# Altium footprint library DSBGA-12.PcbLib: 1 footprints
Each footprint in its own frame and in the unit in brackets; x right, y up, seen from the top. Pads: shape width x height; smd on the part's side, far side on the other; paste and mask are expansions set on the pad; w line width, h text height; cw(c..) or ccw(c..) is an arc to the next point about the centre after c.
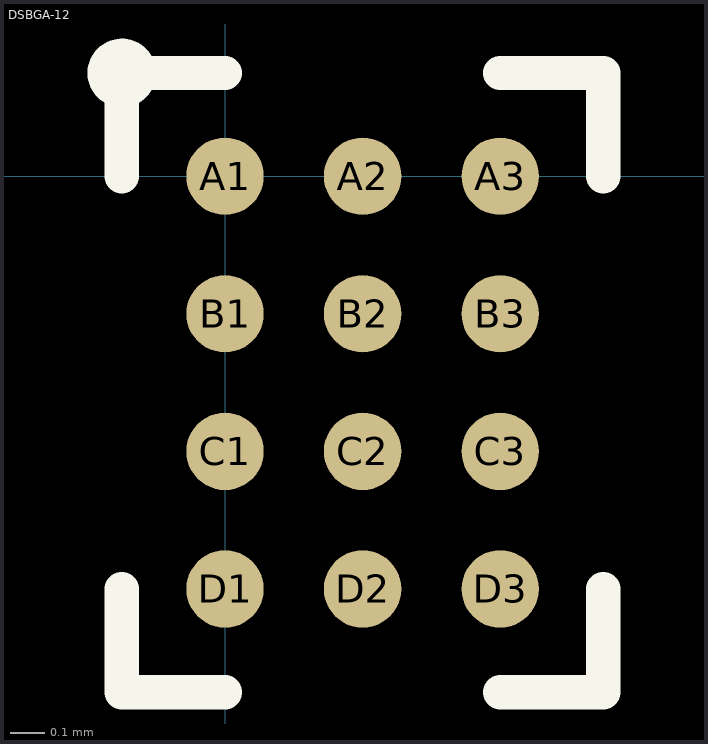
[diagram p0: the footprint, top view; thin cyan lines are the x and y axes]

## DSBGA-12 [mm] "1.65x1.39x0.62"
pads (12):
  round 0.225 smd mask+0.05: A1(0,0) A2(0.4,0) A3(0.8,0) B1(0,-0.4) B2(0.4,-0.4) B3(0.8,-0.4) C1(0,-0.8) C2(0.4,-0.8) C3(0.8,-0.8) D1(0,-1.2) D2(0.4,-1.2) D3(0.8,-1.2)
Top Overlay:
  circle w0.1: c-0.3,0.3 r0.05
  lines w0.1: -0.3,-1.2 -0.3,-1.5 0,-1.5 ; -0.3,0 -0.3,0.3 0,0.3 ; 0.8,-1.5 1.1,-1.5 1.1,-1.2 ; 0.8,0.3 1.1,0.3 1.1,0
3D body "User Library-dsbga12.STEP": height 0.66, standoff -0.01, extent -0.195,-1.395 1.005,0.205